# EAGLE library part SD_CARD_MICRO (library Bauteile)
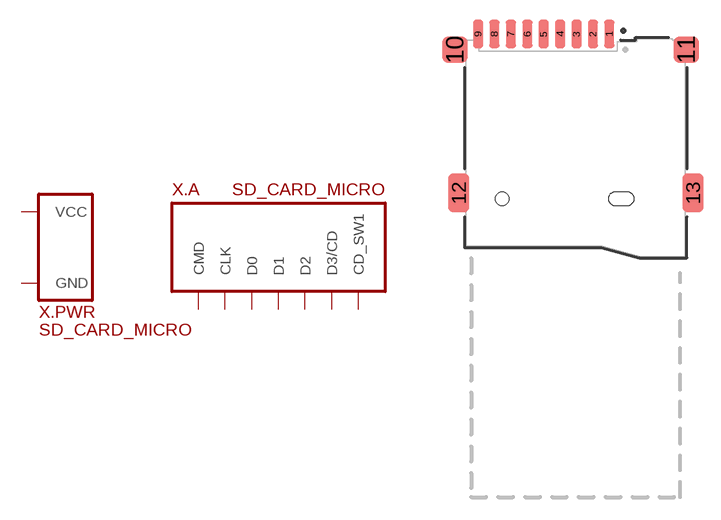
[diagram p55: symbol with the pads of WE-CRD_µSD_693071020811; footprint WE-CRD_µSD_693071020811]

Designator prefix X; gates .PWR=SUPPLY_VCC/GND .A=SD_CARD_MICRO

## SD_CARD_MICRO(WE-CRD) (ID: 693071020811; VALUE: 693071020811)  [WE-CRD_µSD_693071020811]
1  .A:D2
2  .A:D3/CD
3  .A:CMD
4  .PWR:VCC
5  .A:CLK
6  .PWR:GND
7  .A:D0
8  .A:D1
9  .A:CD_SW1
10  .PWR:GND
11  .PWR:GND
12  .PWR:GND
13  .PWR:GND

## Footprint WE-CRD_µSD_693071020811 (pad centres in mm)
smd 0.7 x 1.9: 1 2.25,11.05; 2 1.15,11.05; 3 0.05,11.05; 4 -1.05,11.05; 5 -2.15,11.05; 6 -3.25,11.05; 7 -4.35,11.05; 8 -5.45,11.05; 9 -6.55,11.05
smd 1.7 x 1.8: 10 -8.1,10; 11 7.4,10
smd 1.4 x 2.6: 12 -7.85,0.4; 13 7.85,0.4
hole 0.9 at -4.95,0